# Altium footprint library ebf FPGA ADC DAC 20191230_PCB库_AD格式.PcbLib: 17 footprints (part 1 of 2)
Each footprint in its own frame and in the unit in brackets; x right, y up, seen from the top. Pads: shape width x height; smd on the part's side, far side on the other; paste and mask are expansions set on the pad; w line width, h text height; cw(c..) or ccw(c..) is an arc to the next point about the centre after c.
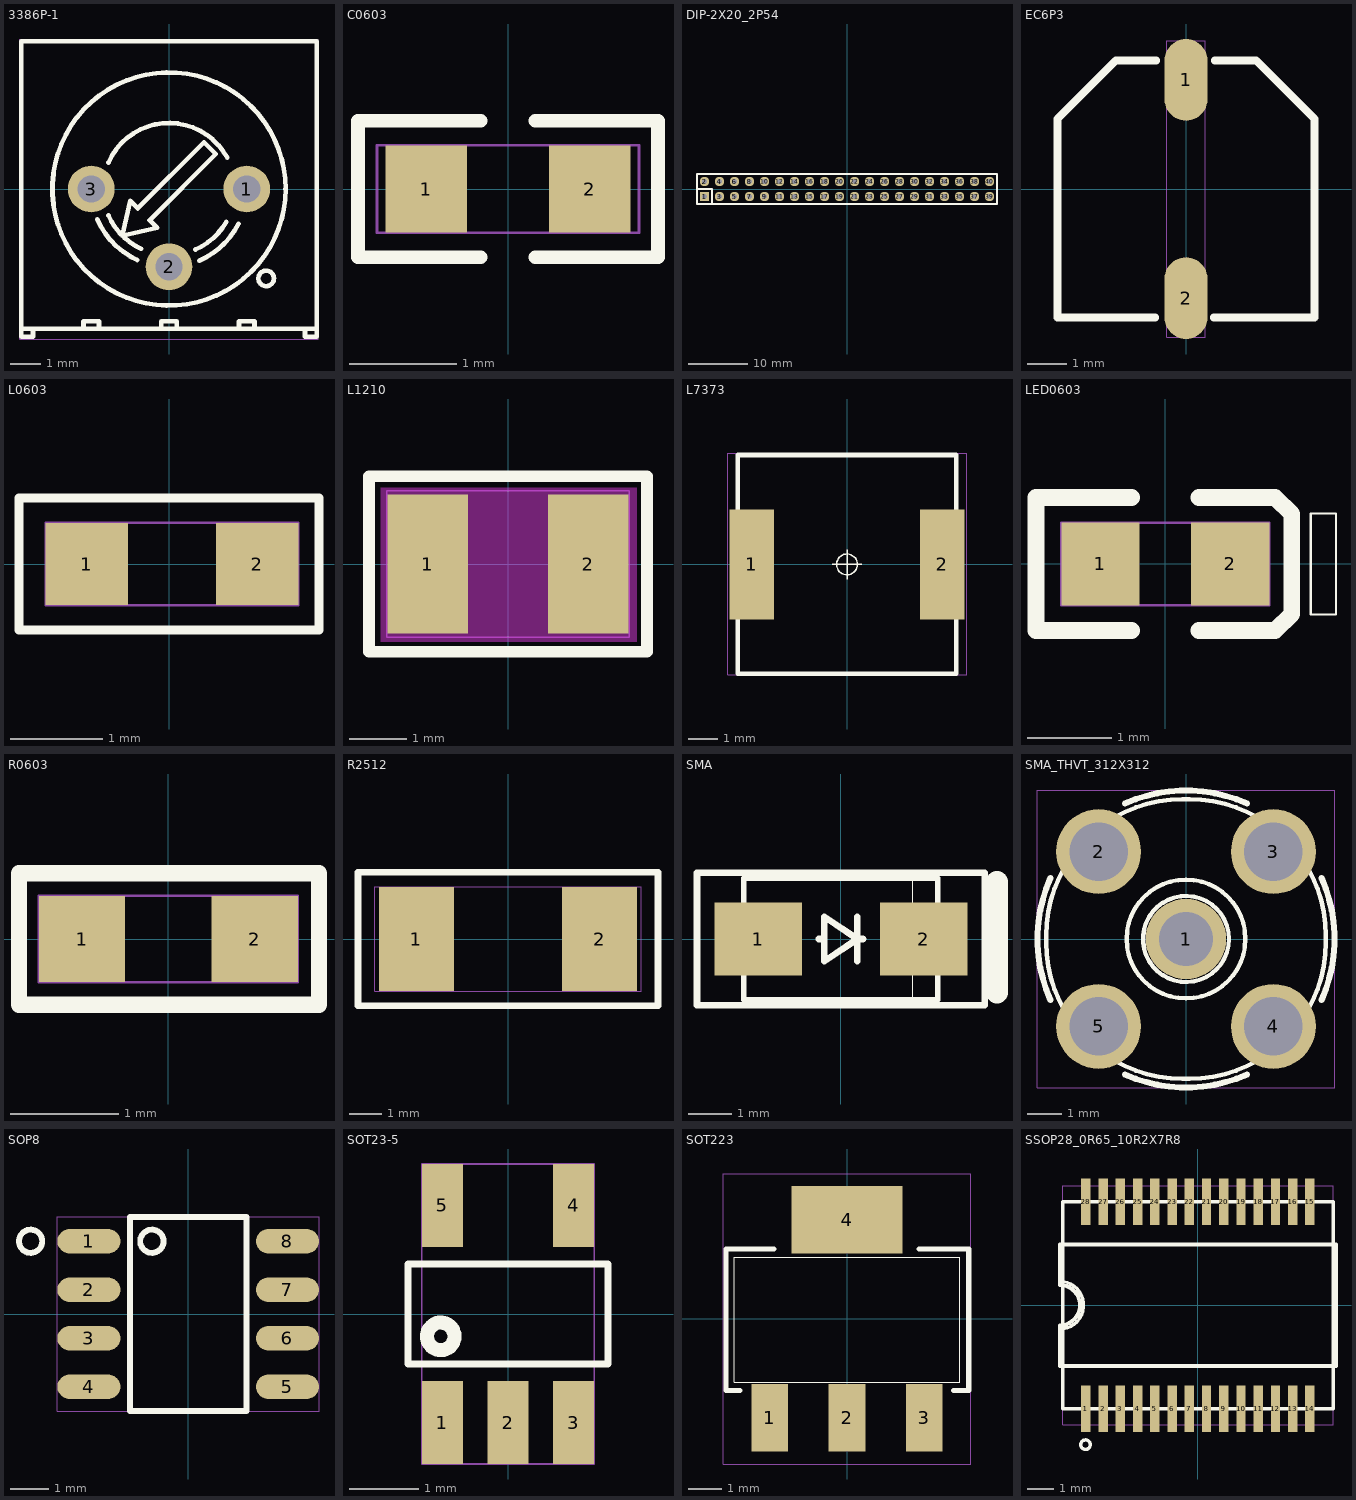
[diagram p0: the footprints below, top view; thin cyan lines are the x and y axes]

## 3386P-1 [mil]
pads (3):
  round 60 hole 35 mask+2.5: 1(100,0) 2(0,-100) 3(-100,0)
Top Overlay:
  circle w6: c125,-115 r10
  circle w6: c0,0 r150
  lines w6: -190,-180 -175,-180 ; -110,-180 -110,-170 -90,-170 -90,-180 ; -92.19,-38.75 ccw(c0,0) -40.67,-91.35 ; -77.88,-34.04 ccw(c0.01,-0.01) -35.91,-77.05 ; -77.89,34.03 cw(c0,0) 74.98,40.03 ; -10,-180 -10,-170 10,-170 10,-180 ; 34.03,-77.89 ccw(c0,0) 73.76,-42.24 ; 38.75,-92.19 ccw(c0,0) 89.41,-44.78 ; 90,-180 90,-170 110,-170 110,-180 ; 190,-180 175,-180 ; -175,-180 -175,-190 -190,-190 -190,190 190,190 190,-190 175,-190 175,-180 ; -175,-180 175,-180 ; -60,-60 -15,-50 -25,-40 60,45 45,60 -40,-25 -50,-15 -60,-60
Top Assembly:
  text "RA1" at -53.09,-25 h50
Mechanical 20:
  lines w1: -192,-193 192,-193 192,193 -192,193 -192,-193

## C0603 [mil]
pads (2):
  rect 30x32 smd mask+2.5: 1(-30,0) 2(30,0)
Top Overlay:
  lines w5: -10,-25 -55,-25 -55,25 -10,25 ; 10,-25 55,-25 55,25 10,25
Top Assembly:
  text "C8" at -41.54,-25 h50
Mechanical 20:
  lines w1: -48,-16 -48,16 48,16 48,-16 -48,-16

## DIP-2X20_2P54 [mil]
height 78
pads (40):
  rect 62.99x62.99 hole 35.43 mask+2: 1(-950,-50)
  round 62.99 hole 35.43 mask+2: 2(-950,50) 3(-850,-50) 4(-850,50) 5(-750,-50) 6(-750,50) 7(-650,-50) 8(-650,50) 9(-550,-50) 10(-550,50) 11(-450,-50) 12(-450,50) 13(-350,-50) 14(-350,50) 15(-250,-50) 16(-250,50) 17(-150,-50) 18(-150,50) 19(-50,-50) 20(-50,50) 21(50,-50) 22(50,50) 23(150,-50) 24(150,50) 25(250,-50) 26(250,50) 27(350,-50) 28(350,50) 29(450,-50) 30(450,50) 31(550,-50) 32(550,50) 33(650,-50) 34(650,50) 35(750,-50) 36(750,50) 37(850,-50) 38(850,50) 39(950,-50) 40(950,50)
Top Overlay:
  lines w12: -1000,0 -900,0 -900,-100 ; -1000,-100 -1000,100 1000,100 1000,-100 -1000,-100
Top Assembly:
  text "J1" at 24.29,25 h50
Mechanical 20:
  lines w1: -1000,-100 1000,-100 1000,100 -1000,100 -1000,-100

## EC6P3 [mil]
pads (2):
  oval 43.37x82.74 smd: 1(0,110.24) 2(0,-110.24)
Top Overlay:
  lines w7.87: -31,-129.92 -129.92,-129.92 -129.92,70.87 -70.87,129.92 -30,129.92 ; 28,-129.92 129.92,-129.92 129.92,70.87 70.87,129.92 29,129.92
Top Assembly:
  text "C9" at -40.35,-25 h50
Mechanical 20:
  lines w1: -19.69,-149.61 19.69,-149.61 19.69,149.61 -19.69,149.61 -19.69,-149.61

## L0603 [mil]
pads (2):
  rect 35x35 smd mask+1.97: 1(-35,0) 2(37.49,0)
Top Overlay:
  lines w3.94: -63.74,-28 -63.74,28 63.74,28 63.74,-28 -63.74,-28
Top Assembly:
  text "L9" at -32.5,-25 h50
Mechanical 20:
  lines w1: -52.5,-17.5 54.99,-17.5 54.99,17.5 -52.5,17.5 -52.5,-17.5

## L1210 [mil]
pads (2):
  rect 55x95 smd mask+5: 1(-55,0) 2(55,0)
Top Layer keep-out:
  region: -87,-53 -87,52 88,52 88,-53
Top Overlay:
  lines w8: -95,-60 -95,60 95,60 95,-60 -95,-60
Top Assembly:
  text "L3" at -33.69,-25 h50
Mechanical 20:
  lines w1: -83,-50 -83,50 83,50 83,-50 -83,-50

## L7373 [mil]
pads (2):
  rect 59.06x145.67 smd mask+1.97: 1(-126,0) 2(126,0)
Top Overlay:
  circle w1.97: c0,0 r13.78
  lines w1.97: -19.69,0 19.69,0 ; 0,-19.69 0,19.69
  lines w6: -145,-145 145,-145 145,145 -145,145 -145,-145
Top Assembly:
  text "L1" at -22.98,-25 h50
Mechanical 20:
  lines w1: -158,-146 -158,147 159,147 159,-146 -158,-146

## LED0603 [mil]
pads (2):
  rect 36.61x38.58 smd mask+1.97: 1(-30.31,0) 2(30.32,0)
Top Overlay:
  lines w1: 67.91,-23.62 67.91,23.62 79.73,23.62 79.73,-23.62 67.91,-23.62
  lines w7.87: -15.75,-31.1 -60.43,-31.1 -60.43,31.1 -15.75,31.1 ; 15.75,-31.1 51.18,-31.1 59.06,-23.5 59.06,23.5 51.18,31.1 15.75,31.1
Top Assembly:
  text "D2" at 38.93,25 h50
Mechanical 20:
  lines w1: -48.62,-19.29 48.62,-19.29 48.62,19.29 -48.62,19.29 -48.62,-19.29

## R0603 [mil]
pads (2):
  rect 31.5x31.5 smd mask+1.97: 1(-31.5,0) 2(31.5,0)
Top Overlay:
  lines w6: -54.5,-24 55,-24 55,24 -54.5,24 -54.5,-24
Top Assembly:
  text "R9" at -37.73,-25 h50
Mechanical 20:
  lines w1: -47.24,-15.75 47.24,-15.75 47.24,15.75 -47.24,15.75 -47.24,-15.75

## R2512 [mil]
pads (2):
  rect 90x125 smd mask+2: 1(-110,0) 2(110,0)
Top Overlay:
  lines w8: -180,-80 -180,80 180,80 180,-80 -180,-80
Top Assembly:
  text "R22" at 61.18,25 h50
Mechanical 20:
  lines w1: -160,-63 -160,63 160,63 160,-63 -160,-63

## SMA [mil]
pads (2):
  rect 79x66 smd mask+3: 1(-74.8,0) 2(74.8,0)
Top Overlay:
  lines w1: 65,-55 90,-55 90,55 65,55 65,-55
  lines w5: -87.56,-30 -102.56,-30 -102.56,30 -87.56,30 ; 87.56,-30 102.56,-30 102.56,30 87.56,30 ; -87.56,-55 -87.56,55 87.56,55 87.56,-55 -87.56,-55
  lines w6: -20,0 -15,0 ; 15,-20 15,20 ; 20,0 15,0 ; 15,0 -15,20 -15,-20 15,0 ; -130,-60 -130,60 130,60 130,-60 -130,-60
  lines w19.69: 141.17,-48.28 141.17,51.72
Top Assembly:
  text "D1" at 28.21,25 h50
Mechanical 20:
  lines w1: -130,-60 -130,60 130,60 130,-60 -130,-60

## SMA_THVT_312X312 [mil]
pads (5):
  round 92 hole 62 mask+5: 1(0,0)
  round 97 hole 67 mask+6.5: 2(-100,100) 3(100,100) 4(100,-100) 5(-100,-100)
Top Overlay:
  circle w5: c0,0 r68.01
  circle w5: c0,0 r49.24
  lines w5: -160,-4 ccw(c-4,-4) -4,-160 4,-160 ccw(c4,-4) 160,-4 160,4 ccw(c4,4) 4,160 -4,160 ccw(c-4,4) -160,4 -160,-4
  lines w7: -154.99,-70.03 cw(c0.83,0) -154.99,70.03 ; -70.03,-154.99 ccw(c0,0.83) 70.03,-154.99 ; -70.03,154.99 cw(c0,-0.83) 70.03,154.99 ; 154.99,-70.03 ccw(c-0.83,0) 154.99,70.03
Top Assembly:
  text "E2" at -36.31,-25 h50
Mechanical 20:
  lines w1: -170,-170 170,-170 170,170 -170,170 -170,-170

## SOP8 [mil]
pads (8):
  oval 65x25 smd mask+1.97: 1(-102.36,75) 2(-102.36,25) 3(-102.36,-25) 4(-102.36,-75) 5(102.36,-75) 6(102.36,-25) 7(102.36,25) 8(102.36,75)
Top Overlay:
  circle w6: c-162.36,75 r12
  circle w6: c-37.36,75 r12
  lines w6: -60,-100 60,-100 60,100 -60,100 -60,-100
Top Assembly:
  text "U5" at -40.23,-25 h50
Mechanical 20:
  lines w1: -134.86,-100 -134.86,100 134.86,100 134.86,-100 -134.86,-100

## SOT23-5 [mil]
pads (5):
  rect 23.62x47.24 smd mask+1.97: 1(-37.4,-62.01) 2(0,-62.01) 3(37.4,-62.01) 4(37.4,62.01) 5(-37.4,62.01)
Top Overlay:
  circle w8: c-38.4,-12.79 r7.87
  lines w4: -57.09,-28.54 -57.09,18.7 -57.09,28.54 57.09,28.54 57.09,18.7 57.09,-28.54 -57.09,-28.54
Top Assembly:
  text "U8" at -40.23,-25 h50
Mechanical 20:
  lines w1: -49.21,-85.63 49.21,-85.63 49.21,85.63 -49.21,85.63 -49.21,-85.63

## SOT223 [mil]
pads (4):
  rect 43x79 smd mask+2: 1(-90.55,-116.14) 2(0,-116.14) 3(90.55,-116.14)
  rect 130x79 smd mask+2: 4(0,116.14)
Top Overlay:
  lines w1: -132,-74.14 132,-74.14 132,71.86 -132,71.86 -132,-74.14
  lines w6: -125.55,-84.14 -141.55,-84.14 -141.55,81.86 -85.55,81.86 ; 84.45,81.86 142.45,81.86 142.45,-84.14 124.45,-84.14
Top Assembly:
  text "U2" at 40.23,25 h50
Mechanical 20:
  lines w1: -145,-170 145,-170 145,170 -145,170 -145,-170

## SSOP28_0R65_10R2X7R8 [mil]
pads (28):
  rect 14x69 smd mask+3: 1(-166.34,-153.54) 2(-140.75,-153.54) 3(-115.16,-153.54) 4(-89.57,-153.54) 5(-63.98,-153.54) 6(-38.39,-153.54) 7(-12.8,-153.54) 8(12.8,-153.54) 9(38.39,-153.54) 10(63.98,-153.54) 11(89.57,-153.54) 12(115.16,-153.54) 13(140.75,-153.54) 14(166.34,-153.54) 15(166.34,153.54) 16(140.75,153.54) 17(115.16,153.54) 18(89.57,153.54) 19(63.98,153.54) 20(38.39,153.54) 21(12.8,153.54) 22(-12.8,153.54) 23(-38.39,153.54) 24(-63.98,153.54) 25(-89.57,153.54) 26(-115.16,153.54) 27(-140.75,153.54) 28(-166.34,153.54)
Top Overlay:
  circle w5: c-166.92,-207.08 r7.1
  lines w5: -200.02,35 cw(c-205,0) -199.96,-34.99 ; -200.79,-153.54 200.79,-153.54 200.79,153.54 -200.79,153.54 -200.79,-153.54
  lines w6: -205,-90 205,-90 205,90 -205,90 -205,30 cw(c-205,0) -205,-30 -205,-90
Top Assembly:
  text "U3" at 40.23,25 h50
Mechanical 20:
  lines w1: -200.78,-177.26 -200.78,177.26 200.79,177.26 200.79,-177.26 -200.78,-177.26